# EAGLE library part MONO_AMPLIFIER_MODULE (library breakout-modules)
ZAD8002 3W Mono amplifier module Power Supply: 3-5V Output Impedance: 4-8Ω Frequency Response: 150HZ-20KHZ Efficiency: 90%
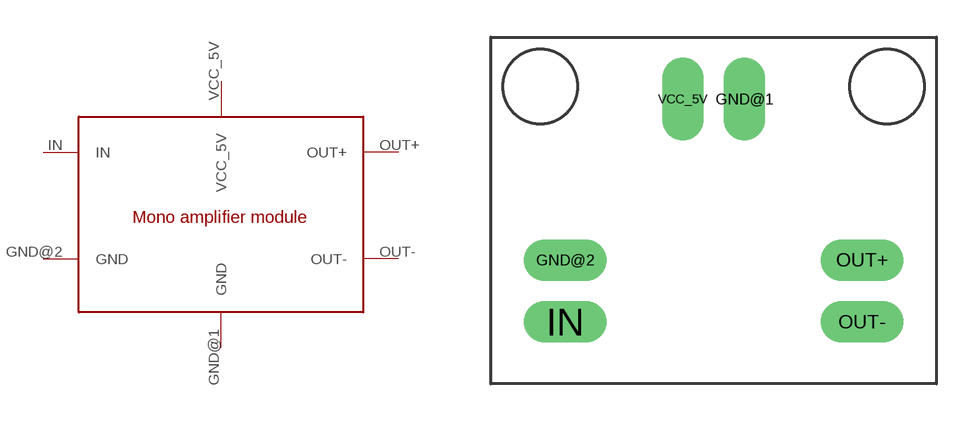
[diagram p1: symbol with the pads of MONO_AMPLIFIER_MODULE; footprint MONO_AMPLIFIER_MODULE]

Designator prefix -

## MONO_AMPLIFIER_MODULE  [MONO_AMPLIFIER_MODULE]
GND@1  GND
GND@2  GND
IN  IN
OUT+  OUT+
OUT-  OUT-
VCC_5V  VCC_5V

## Footprint MONO_AMPLIFIER_MODULE (pad centres in mm)
drill 0.5 pad 1.676 long: GND@1 1.25,4.5; GND@2 -6,-2; IN -6,-4.5; OUT+ 6,-2; OUT- 6,-4.5; VCC_5V -1.25,4.5